# EAGLE library part MCU_ATMEGA32U4 (library akita)
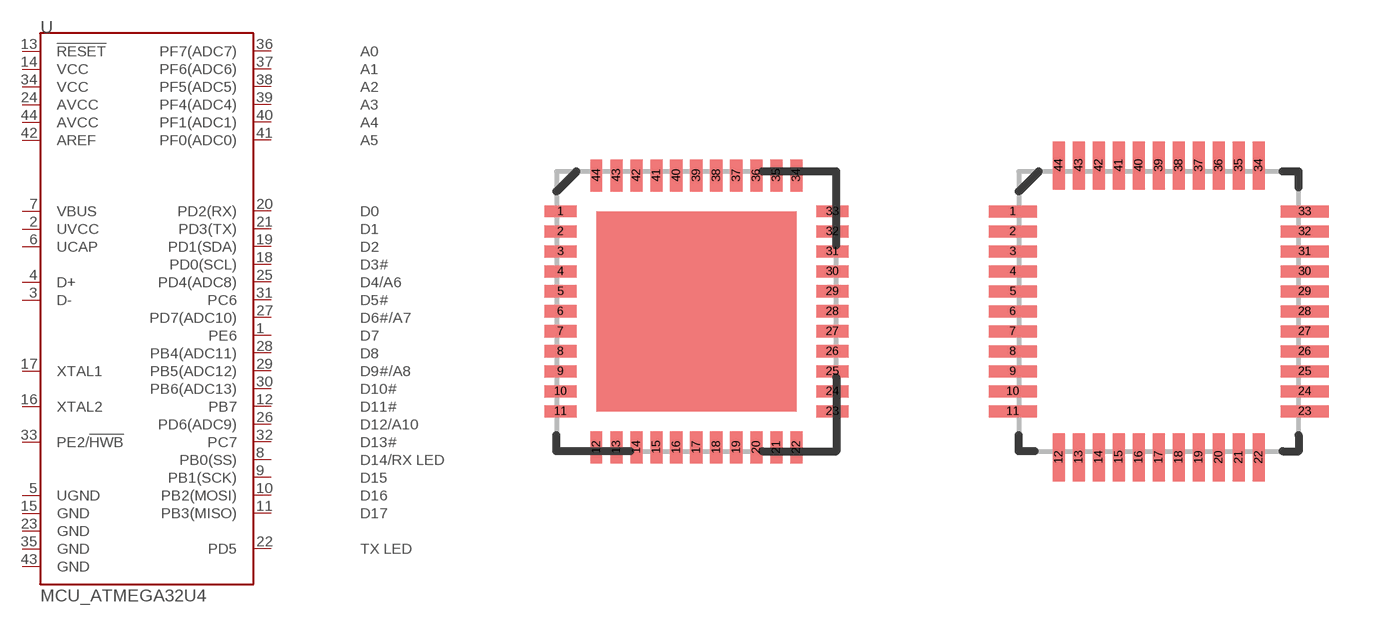
[diagram p43: symbol with the pads of QFN-44; footprints QFN-44, QFN-44-NOPAD]

Designator prefix -

## MCU_ATMEGA32U4QFN  [QFN-44]
1  PE6
2  UVCC
3  D-
4  D+
5  UGND
6  UCAP
7  VBUS
8  PB0(SS)
9  PB1(SCK)
10  PB2(MOSI)
11  PB3(MISO)
12  PB7
13  !RESET
14  VCC
15  GND
16  XTAL2
17  XTAL1
18  PD0(SCL)
19  PD1(SDA)
20  PD2(RX)
21  PD3(TX)
22  PD5
23  GND
24  AVCC
25  PD4(ADC8)
26  PD6(ADC9)
27  PD7(ADC10)
28  PB4(ADC11)
29  PB5(ADC12)
30  PB6(ADC13)
31  PC6
32  PC7
33  PE2/!HWB
34  VCC
35  GND
36  PF7(ADC7)
37  PF6(ADC6)
38  PF5(ADC5)
39  PF4(ADC4)
40  PF1(ADC1)
41  PF0(ADC0)
42  AREF
43  GND
44  AVCC

## MCU_ATMEGA32U4QFN2  [QFN-44-NOPAD]
Pads as for QFN-44

## MCU_ATMEGA32U4QFP44  [TQFP44_08MM]
P$1  PE6
P$2  UVCC
P$3  D-
P$4  D+
P$5  UGND
P$6  UCAP
P$7  VBUS
P$8  PB0(SS)
P$9  PB1(SCK)
P$10  PB2(MOSI)
P$11  PB3(MISO)
P$12  PB7
P$13  !RESET
P$14  VCC
P$15  GND
P$16  XTAL2
P$17  XTAL1
P$18  PD0(SCL)
P$19  PD1(SDA)
P$20  PD2(RX)
P$21  PD3(TX)
P$22  PD5
P$23  GND
P$24  AVCC
P$25  PD4(ADC8)
P$26  PD6(ADC9)
P$27  PD7(ADC10)
P$28  PB4(ADC11)
P$29  PB5(ADC12)
P$30  PB6(ADC13)
P$31  PC6
P$32  PC7
P$33  PE2/!HWB
P$34  VCC
P$35  GND
P$36  PF7(ADC7)
P$37  PF6(ADC6)
P$38  PF5(ADC5)
P$39  PF4(ADC4)
P$40  PF1(ADC1)
P$41  PF0(ADC0)
P$42  AREF
P$43  GND
P$44  AVCC

## Footprint QFN-44 (pad centres in mm)
smd 0.8 x 0.3: 1 -3.4,2.5; 2 -3.4,2; 3 -3.4,1.5; 4 -3.4,1; 5 -3.4,0.5; 6 -3.4,0; 7 -3.4,-0.5; 8 -3.4,-1; 9 -3.4,-1.5; 10 -3.4,-2; 11 -3.4,-2.5; 23 3.4,-2.5; 24 3.4,-2; 25 3.4,-1.5; 26 3.4,-1; 27 3.4,-0.5; 28 3.4,0; 29 3.4,0.5; 30 3.4,1; 31 3.4,1.5; 32 3.4,2; 33 3.4,2.5
smd 0.3 x 0.8: 12 -2.5,-3.4; 13 -2,-3.4; 14 -1.5,-3.4; 15 -1,-3.4; 16 -0.5,-3.4; 17 0,-3.4; 18 0.5,-3.4; 19 1,-3.4; 20 1.5,-3.4; 21 2,-3.4; 22 2.5,-3.4; 34 2.5,3.4; 35 2,3.4; 36 1.5,3.4; 37 1,3.4; 38 0.5,3.4; 39 0,3.4; 40 -0.5,3.4; 41 -1,3.4; 42 -1.5,3.4; 43 -2,3.4; 44 -2.5,3.4

## Footprint QFN-44-NOPAD (pad centres in mm)
smd 1.2 x 0.3: 1 -3.65,2.5; 2 -3.65,2; 3 -3.65,1.5; 4 -3.65,1; 5 -3.65,0.5; 6 -3.65,0; 7 -3.65,-0.5; 8 -3.65,-1; 9 -3.65,-1.5; 10 -3.65,-2; 11 -3.65,-2.5; 23 3.65,-2.5; 24 3.65,-2; 25 3.65,-1.5; 26 3.65,-1; 27 3.65,-0.5; 28 3.65,0; 29 3.65,0.5; 30 3.65,1; 31 3.65,1.5; 32 3.65,2; 33 3.65,2.5
smd 0.3 x 1.2: 12 -2.5,-3.65; 13 -2,-3.65; 14 -1.5,-3.65; 15 -1,-3.65; 16 -0.5,-3.65; 17 0,-3.65; 18 0.5,-3.65; 19 1,-3.65; 20 1.5,-3.65; 21 2,-3.65; 22 2.5,-3.65; 34 2.5,3.65; 35 2,3.65; 36 1.5,3.65; 37 1,3.65; 38 0.5,3.65; 39 0,3.65; 40 -0.5,3.65; 41 -1,3.65; 42 -1.5,3.65; 43 -2,3.65; 44 -2.5,3.65

## Footprint TQFP44_08MM (pad centres in mm)
smd 1 x 0.4: P$1 -5.6,4; P$2 -5.6,3.2; P$3 -5.6,2.4; P$4 -5.6,1.6; P$5 -5.6,0.8; P$6 -5.6,0; P$7 -5.6,-0.8; P$8 -5.6,-1.6; P$9 -5.6,-2.4; P$10 -5.6,-3.2; P$11 -5.6,-4; P$23 5.6,-4; P$24 5.6,-3.2; P$25 5.6,-2.4; P$26 5.6,-1.6; P$27 5.6,-0.8; P$28 5.6,0; P$29 5.6,0.8; P$30 5.6,1.6; P$31 5.6,2.4; P$32 5.6,3.2; P$33 5.6,4
smd 0.4 x 1: P$12 -4,-5.6; P$13 -3.2,-5.6; P$14 -2.4,-5.6; P$15 -1.6,-5.6; P$16 -0.8,-5.6; P$17 0,-5.6; P$18 0.8,-5.6; P$19 1.6,-5.6; P$20 2.4,-5.6; P$21 3.2,-5.6; P$22 4,-5.6; P$34 4,5.6; P$35 3.2,5.6; P$36 2.4,5.6; P$37 1.6,5.6; P$38 0.8,5.6; P$39 0,5.6; P$40 -0.8,5.6; P$41 -1.6,5.6; P$42 -2.4,5.6; P$43 -3.2,5.6; P$44 -4,5.6